# Altium footprint library IntergratedCircuits.PcbLib: 39 footprints (part 2 of 3)
Each footprint in its own frame and in the unit in brackets; x right, y up, seen from the top. Pads: shape width x height; smd on the part's side, far side on the other; paste and mask are expansions set on the pad; w line width, h text height; cw(c..) or ccw(c..) is an arc to the next point about the centre after c.
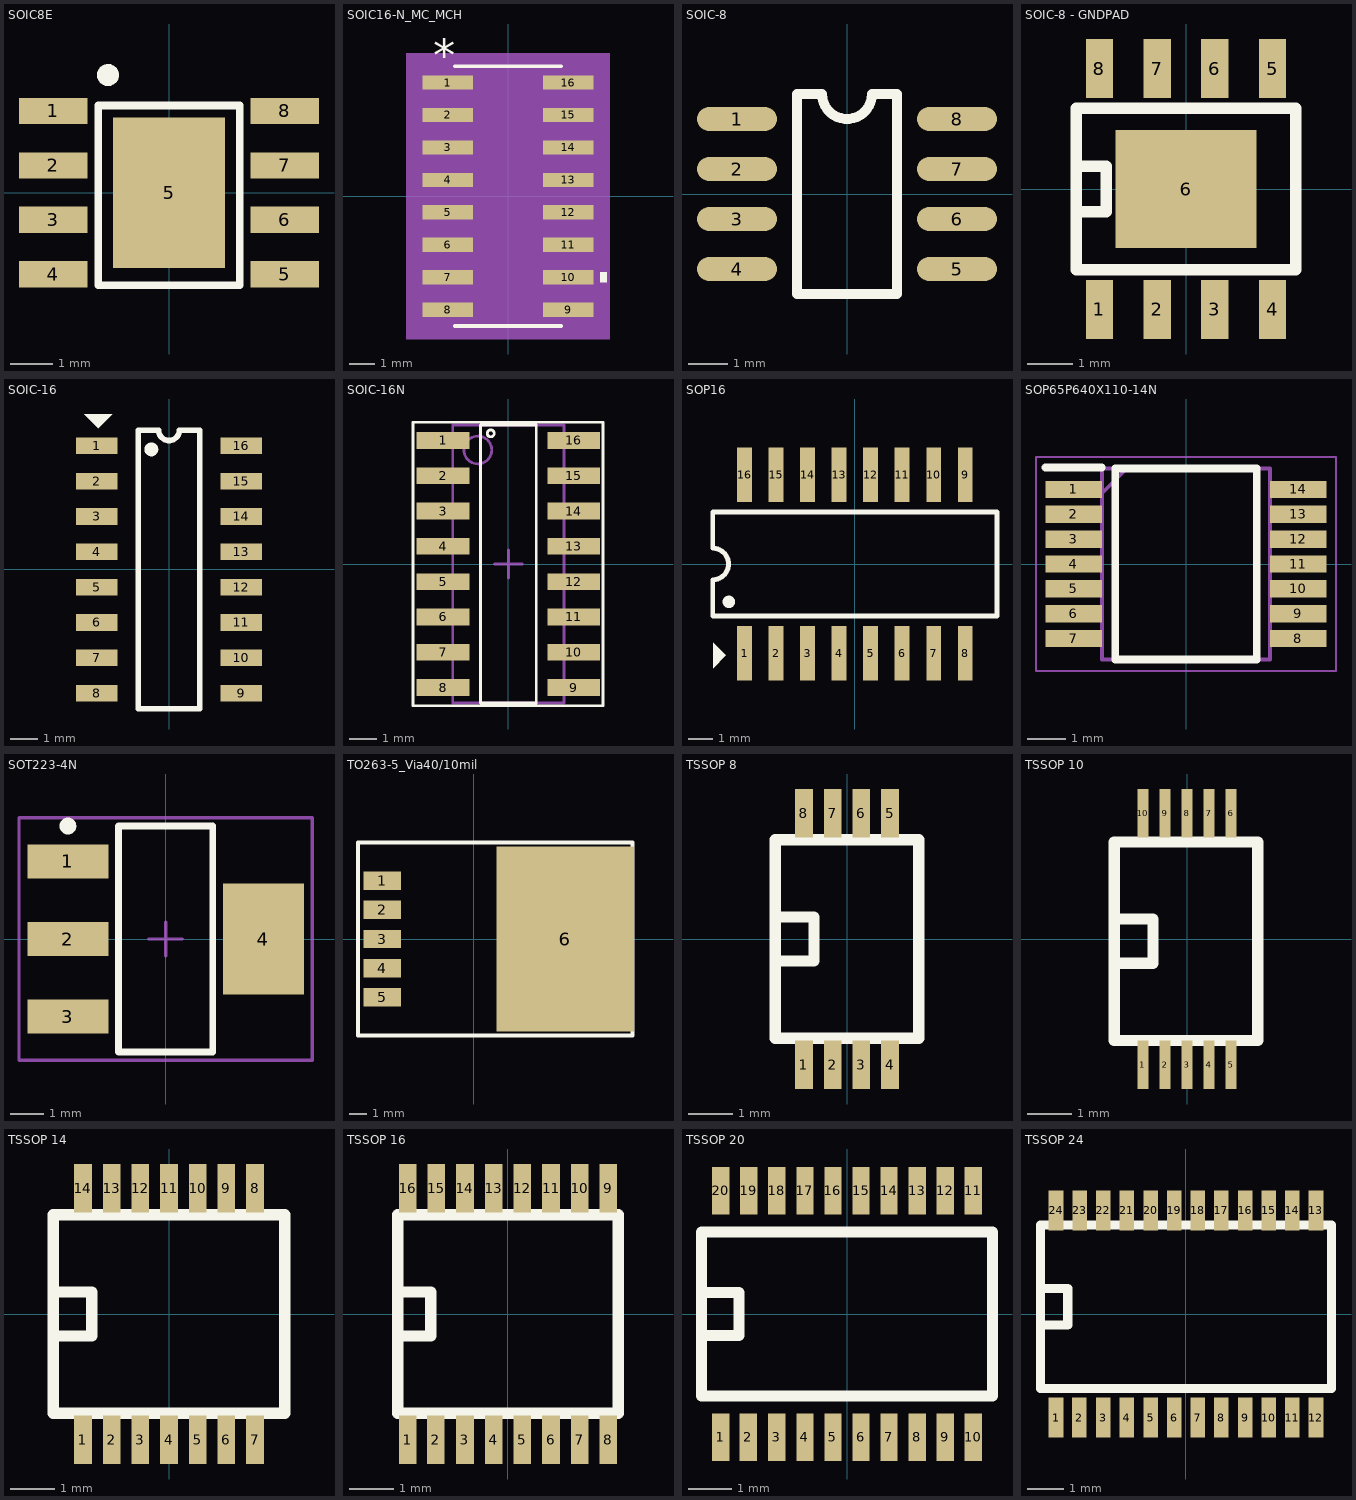
[diagram p1: the footprints below, top view; thin cyan lines are the x and y axes]

## SOIC8E [mm]
height 1.7
pads (9):
  rect 1.6x0.61 smd: 1(-2.7,1.905) 2(-2.7,0.635) 3(-2.7,-0.635) 4(-2.7,-1.905) 5(2.7,-1.905) 6(2.7,-0.635) 7(2.7,0.635) 8(2.7,1.905)
  rect 2.62x3.51 smd: 5(0,0)
Top Overlay:
  circle w0.254: c-1.422,2.743 r0.13
  lines w0.178: -1.651,-2.159 1.651,-2.159 1.651,2.032 -1.651,2.032 -1.651,-2.159
3D body "User Library-SOIC-8-1.STEP": height 1.75, standoff 0, extent -3,-2.45 3,2.45

## SOIC16-N_MC_MCH [mil]
pads (16):
  rect 78x22 smd paste+0 mask+0: 1(-93,175) 2(-93,125) 3(-93,75) 4(-93,25) 5(-93,-25) 6(-93,-75) 7(-93,-125) 8(-93,-175) 9(93,-175) 10(93,-125) 11(93,-75) 12(93,-25) 13(93,25) 14(93,75) 15(93,125) 16(93,175)
Top Overlay:
  region: 142,-117.5 152,-117.5 152,-132.5 142,-132.5
  lines w6: -82,-200 82,-200 ; -82,200 82,200
  text "*" at -115.5,192 h50
Mechanical 5:
  region: 157,-220 -157,-220 -157,220 157,220
Mechanical 13:
  lines w0: -12,195 ccw(c0,195) 12,195
  lines w1: -118,-185 -118,-165 -77,-165 -77,-185 -118,-185 ; -118,-135 -118,-115 -77,-115 -77,-135 -118,-135 ; -118,-85 -118,-65 -77,-65 -77,-85 -118,-85 ; -118,-35 -118,-15 -77,-15 -77,-35 -118,-35 ; -118,15 -118,35 -77,35 -77,15 -118,15 ; -118,65 -118,85 -77,85 -77,65 -118,65 ; -118,115 -118,135 -77,135 -77,115 -118,115 ; -118,165 -118,185 -77,185 -77,165 -118,165 ; -77,-195 77,-195 77,195 -77,195 -77,-195 ; 77,-185 77,-165 118,-165 118,-185 77,-185 ; 77,-135 77,-115 118,-115 118,-135 77,-135 ; 77,-85 77,-65 118,-65 118,-85 77,-85 ; 77,-35 77,-15 118,-15 118,-35 77,-35 ; 77,15 77,35 118,35 118,15 77,15 ; 77,65 77,85 118,85 118,65 77,65 ; 77,115 77,135 118,135 118,115 77,115 ; 77,165 77,185 118,185 118,165 77,165
  text "*" at -74.5,142 h50
Mechanical 15:
  region: -87,-196 -142,-196 -142,196 -87,196 -87,205 87,205 87,196 142,196 142,-196 87,-196 87,-205 -87,-205
  lines w6: -142,-196 -142,196 -87,196 -87,205 87,205 87,196 142,196 142,-196 87,-196 87,-205 -87,-205 -87,-196 -142,-196
3D body "SOIC16-N_MC_MCH.step": height 69.09, standoff 0, extent -117.99,-195 117.99,195

## SOIC-8 [mil]
pads (8):
  oval 80x24 smd: 1(-110,75) 2(-110,25) 3(-110,-25) 4(-110,-75) 5(110,-75) 6(110,-25) 7(110,25) 8(110,75)
Top Overlay:
  lines w10: -50,-100 -50,100 -25,100 ccw(c0,100) 25,100 50,100 50,-100 -50,-100
3D body "User Library-SOIC-8-150.STEP": height 67.53, standoff -1.37, extent -122.06,-98.43 122.04,98.43

## SOIC-8 - GNDPAD [mm]
pads (9):
  rect 0.6x1.3 smd: 1(-1.905,-2.65) 2(-0.635,-2.65) 3(0.635,-2.65) 4(1.905,-2.65) 5(1.905,2.65) 6(0.635,2.65) 7(-0.635,2.65) 8(-1.905,2.65)
  rect 3.1x2.6 smd: 6(0,0)
Top Overlay:
  lines w0.254: -2.392,-0.5 -1.75,-0.5 -1.75,0.5 -2.392,0.5 ; -2.413,-1.778 2.413,-1.778 2.413,1.778 -2.413,1.778 -2.413,-1.778
3D body "User Library-SOIC-8-150.STEP": height 1.72, standoff -0.03, extent -2.5,-3.1 2.5,3.1

## SOIC-16 [mm]
pads (16):
  rect 1.5x0.6 smd: 1(-2.6,4.445) 2(-2.6,3.175) 3(-2.6,1.905) 4(-2.6,0.635) 5(-2.6,-0.635) 6(-2.6,-1.905) 7(-2.6,-3.175) 8(-2.6,-4.445) 9(2.6,-4.445) 10(2.6,-3.175) 11(2.6,-1.905) 12(2.6,-0.635) 13(2.6,0.635) 14(2.6,1.905) 15(2.6,3.175) 16(2.6,4.445)
Top Overlay:
  circle w0.25: c-0.635,4.316 r0.125
  region: -3.048,5.588 -2.54,5.08 -2.032,5.588
  lines w0.2: -1.1,-5 1.1,-5 1.1,5 0.367,5 cw(c0,5) -0.367,5 -1.1,5 -1.1,-5
3D body "SW3DPS-SO-16-DEFAULT.STEP": height 1.46, standoff 0.01, extent -2.905,-4.991 3,4.991

## SOIC-16N [mm] "SOIC, 16-Leads, Body 9.9x3.9mm, Pitch 1.27mm, IPC High Density"
height 1.75
pads (16):
  rect 1.9x0.6 smd: 1(-2.35,4.445) 2(-2.35,3.175) 3(-2.35,1.905) 4(-2.35,0.635) 5(-2.35,-0.635) 6(-2.35,-1.905) 7(-2.35,-3.175) 8(-2.35,-4.445) 9(2.35,-4.445) 10(2.35,-3.175) 11(2.35,-1.905) 12(2.35,-0.635) 13(2.35,0.635) 14(2.35,1.905) 15(2.35,3.175) 16(2.35,4.445)
Top Overlay:
  circle w0.1: c-0.635,4.699 r0.125
  lines w0.1: -3.429,-5.1 -3.429,5.1 3.4,5.1 3.4,-5.1 -3.429,-5.1 ; -1,-5 1,-5 1,5 -1,5 -1,-5
Mechanical 13:
  circle w0.1: c-1.1,4.1 r0.5
  lines w0.1: -2,-5 2,-5 2,5 -2,5 -2,-5
Mechanical 15:
  lines w0.1: -0.5,0 0.5,0 ; 0,-0.5 0,0.5
3D body "SOIC-16N.step": height 1.7, standoff 0, extent -3.099,-4.953 3.099,4.953

## SOP16 [mm] "Small Outline; 16 Leads; Body Width 5.6 mm; Pitch 1.27 mm"
height 2
pads (16):
  rect 0.6x2.2 smd: 1(-4.445,-3.6) 2(-3.175,-3.6) 3(-1.905,-3.6) 4(-0.635,-3.6) 5(0.635,-3.6) 6(1.905,-3.6) 7(3.175,-3.6) 8(4.445,-3.6) 9(4.445,3.6) 10(3.175,3.6) 11(1.905,3.6) 12(0.635,3.6) 13(-0.635,3.6) 14(-1.905,3.6) 15(-3.175,3.6) 16(-4.445,3.6)
Top Overlay:
  circle w0.25: c-5.078,-1.524 r0.125
  region: -5.715,-4.191 -5.207,-3.683 -5.715,-3.175
  lines w0.2: -5.725,-2.1 -5.725,-0.635 ccw(c-5.725,0) -5.725,0.635 -5.725,2.1 5.725,2.1 5.725,-2.1 -5.725,-2.1
3D body "User Library-User Library-TLP291-4(SOP16).STEP": height 2.1, standoff 0, extent -5.15,-3.5 5.15,3.5

## SOP65P640X110-14N [mm]
pads (14):
  rect 1.475x0.45 smd: 1(-2.938,1.95) 2(-2.938,1.3) 3(-2.938,0.65) 4(-2.938,0) 5(-2.938,-0.65) 6(-2.938,-1.3) 7(-2.938,-1.95) 8(2.938,-1.95) 9(2.938,-1.3) 10(2.938,-0.65) 11(2.938,0) 12(2.938,0.65) 13(2.938,1.3) 14(2.938,1.95)
Top Overlay:
  lines w0.2: -3.675,2.525 -2.2,2.525 ; -1.85,-2.5 -1.85,2.5 1.85,2.5 1.85,-2.5 -1.85,-2.5
Mechanical 13:
  lines w0.1: -2.2,1.85 -1.55,2.5 ; -2.2,-2.5 -2.2,2.5 2.2,2.5 2.2,-2.5 -2.2,-2.5
Mechanical 15:
  lines w0.05: -3.925,-2.8 -3.925,2.8 3.925,2.8 3.925,-2.8 -3.925,-2.8
3D body "MAX31856MUD+.stp": height 1.1, standoff 0, extent -3.2,-2.5 3.2,2.5

## SOT223-4N [mm] "SOT223, 4-Leads, Body 6.5x3.5mm, Pitch 2.3mm, Lead Span 7mm, IPC Medium Density"
height 1.8
pads (4):
  rect 2.4x1 smd: 1(-2.9,2.3) 2(-2.9,0) 3(-2.9,-2.3)
  rect 2.4x3.3 smd: 4(2.9,0)
Top Overlay:
  circle w0.25: c-2.9,3.35 r0.125
  lines w0.2: -1.4,-3.35 1.4,-3.35 1.4,3.35 -1.4,3.35 -1.4,-3.35
Mechanical 15:
  lines w0.1: -0.5,0 0.5,0 ; 0,-0.5 0,0.5 ; -4.35,-3.6 4.35,-3.6 4.35,3.6 -4.35,3.6 -4.35,-3.6
3D body "SW3dPS-Regulator.STEP": height 1.72, standoff 0.02, extent -3.395,-3.274 3.496,3.226

## TO263-5_Via40/10mil [mm] "SOT223, 4-Leads, Body 6.5x3.5mm, Pitch 2.3mm, Lead Span 7mm, IPC Medium Density"
height 1.8
pads (6):
  rect 2.16x1.07 smd: 1(-5.335,3.4) 2(-5.335,1.7) 3(-5.335,0) 4(-5.335,-1.7) 5(-5.335,-3.4)
  rect 8x10.8 smd: 6(5.335,0)
Top Overlay:
  lines w0.254: -6.75,-5.625 9.25,-5.625 9.25,5.625 -6.75,5.625 -6.75,3 -6.75,-5.625
3D body "SW3dPS-TO-263 5Ld.STEP": height 4.57, standoff -0.01, extent -5.923,-5.08 8.718,5.08

## TSSOP 8 [mm]
pads (8):
  rect 0.4x1.1 smd mask+0.201: 1(-0.975,-2.85) 2(-0.325,-2.85) 3(0.325,-2.85) 4(0.975,-2.85) 5(0.975,2.85) 6(0.325,2.85) 7(-0.325,2.85) 8(-0.975,2.85)
Top Overlay:
  lines w0.254: -1.5,-0.5 -0.75,-0.5 -0.75,0.5 -1.5,0.5 ; -1.625,-2.25 1.625,-2.25 1.625,2.25 -1.625,2.25 -1.625,-2.25
3D body "User Library-TSSOP-8 3_1x4_4.STEP": height 1.1, standoff 0, extent -1.55,-3.2 1.55,3.2

## TSSOP 10 [mm]
pads (10):
  rect 0.25x1.1 smd mask+0.201: 1(-1,-2.85) 2(-0.5,-2.85) 3(0,-2.85) 4(0.5,-2.85) 5(1,-2.85) 6(1,2.85) 7(0.5,2.85) 8(0,2.85) 9(-0.5,2.85) 10(-1,2.85)
Top Overlay:
  lines w0.254: -1.525,-0.55 -0.775,-0.55 -0.775,0.45 -1.525,0.45 ; -1.65,-2.3 1.6,-2.3 1.6,2.2 -1.65,2.2 -1.65,-2.3
3D body "User Library-TSSOP-10 3_1x4_4.STEP": height 1.1, standoff 0, extent -1.55,-3.2 1.55,3.2

## TSSOP 14 [mm]
pads (14):
  rect 0.4x1.1 smd mask+0.201: 1(-1.95,-2.85) 2(-1.3,-2.85) 3(-0.65,-2.85) 4(0,-2.85) 5(0.65,-2.85) 6(1.3,-2.85) 7(1.95,-2.85) 8(1.95,2.85) 9(1.3,2.85) 10(0.65,2.85) 11(0,2.85) 12(-0.65,2.85) 13(-1.3,2.85) 14(-1.95,2.85)
Top Overlay:
  lines w0.254: -2.5,-0.5 -1.75,-0.5 -1.75,0.5 -2.5,0.5 ; -2.625,-2.25 -2.625,2.25 2.625,2.25 2.625,-2.25 -2.625,-2.25
3D body "User Library-TSSOP-14 5_1x4_4.STEP": height 1.1, standoff 0, extent -2.55,-3.2 2.55,3.2

## TSSOP 16 [mm]
pads (16):
  rect 0.4x1.1 smd mask+0.201: 1(-2.275,-2.85) 2(-1.635,-2.85) 3(-0.975,-2.85) 4(-0.325,-2.85) 5(0.325,-2.85) 6(0.975,-2.85) 7(1.625,-2.85) 8(2.275,-2.85) 9(2.275,2.85) 10(1.625,2.85) 11(0.975,2.85) 12(0.325,2.85) 13(-0.325,2.85) 14(-0.975,2.85) 15(-1.625,2.85) 16(-2.275,2.85)
Top Overlay:
  lines w0.254: -2.5,-0.5 -1.75,-0.5 -1.75,0.5 -2.5,0.5 ; -2.5,-2.25 2.5,-2.25 2.5,2.25 -2.5,2.25 -2.5,-2.25
3D body "User Library-TSSOP-16 5_1x4_4.STEP": height 1.1, standoff 0, extent -2.55,-3.2 2.55,3.2

## TSSOP 20 [mm]
pads (20):
  rect 0.4x1.1 smd mask+0.201: 1(-2.925,-2.85) 2(-2.285,-2.85) 3(-1.625,-2.85) 4(-0.975,-2.85) 5(-0.325,-2.85) 6(0.325,-2.85) 7(0.975,-2.85) 8(1.625,-2.85) 9(2.275,-2.85) 10(2.925,-2.85) 11(2.925,2.85) 12(2.275,2.85) 13(1.625,2.85) 14(0.975,2.85) 15(0.325,2.85) 16(-0.325,2.85) 17(-0.975,2.85) 18(-1.625,2.85) 19(-2.275,2.85) 20(-2.925,2.85)
Top Overlay:
  lines w0.254: -3.25,-0.5 -2.5,-0.5 -2.5,0.5 -3.25,0.5 ; -3.375,-1.905 3.375,-1.905 3.375,1.905 -3.375,1.905 -3.375,-1.905
3D body "User Library-TSSOP-20 6_6x4_4.STEP": height 1.1, standoff 0, extent -3.3,-3.2 3.3,3.2

## TSSOP 24 [mm]
pads (24):
  rect 0.4x1.1 smd mask+0.201: 1(-3.575,-2.85) 2(-2.935,-2.85) 3(-2.275,-2.85) 4(-1.625,-2.85) 5(-0.975,-2.85) 6(-0.325,-2.85) 7(0.325,-2.85) 8(0.975,-2.85) 9(1.625,-2.85) 10(2.275,-2.85) 11(2.925,-2.85) 12(3.575,-2.85) 13(3.575,2.85) 14(2.925,2.85) 15(2.275,2.85) 16(1.625,2.85) 17(0.975,2.85) 18(0.325,2.85) 19(-0.325,2.85) 20(-0.975,2.85) 21(-1.625,2.85) 22(-2.275,2.85) 23(-2.925,2.85) 24(-3.575,2.85)
Top Overlay:
  lines w0.254: -4,-0.3 -3.25,-0.3 -3.25,0.7 -4,0.7 ; -4,-2.05 4,-2.05 4,2.45 -4,2.45 -4,-2.05
3D body "User Library-TSSOP-24 7_9x4_4.STEP": height 1.1, standoff 0, extent -3.95,-3.2 3.95,3.2